# EAGLE library part 418117270910 (library Wurth_Elektronik_Electromechanic_Switch_rev15d)
WS-BS 2.54 mm compact THT Dip Switch with raised actuator, 10 Pole
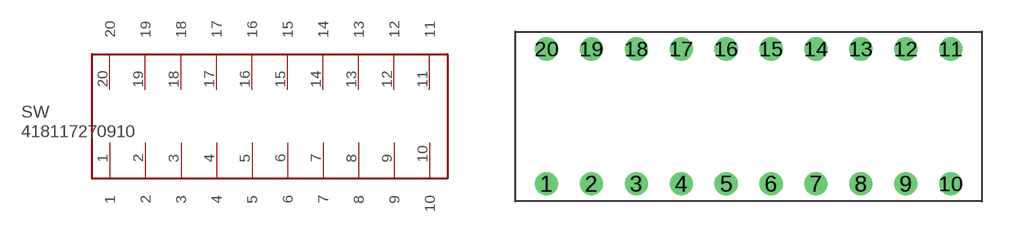
[diagram p65: symbol with the pads of 418117270910; footprint 418117270910]

Designator prefix SW

## 418117270910  [418117270910]
1  1
2  2
3  3
4  4
5  5
6  6
7  7
8  8
9  9
10  10
11  11
12  12
13  13
14  14
15  15
16  16
17  17
18  18
19  19
20  20

## Footprint 418117270910 (pad centres in mm)
WS-BS 2.54 mm compact THT Dip Switch with raised actuator, 10 Pole
drill 0.8: 1 -11.43,-3.81; 2 -8.89,-3.81; 3 -6.35,-3.81; 4 -3.81,-3.81; 5 -1.27,-3.81; 6 1.27,-3.81; 7 3.81,-3.81; 8 6.35,-3.81; 9 8.89,-3.81; 10 11.43,-3.81; 11 11.43,3.81; 12 8.89,3.81; 13 6.35,3.81; 14 3.81,3.81; 15 1.27,3.81; 16 -1.27,3.81; 17 -3.81,3.81; 18 -6.35,3.81; 19 -8.89,3.81; 20 -11.43,3.81